# Altium schematic symbol library Блок вычислительный.SchLib: 35 symbols
Pins are listed as number, name and electrical type; pins without a type are passive.

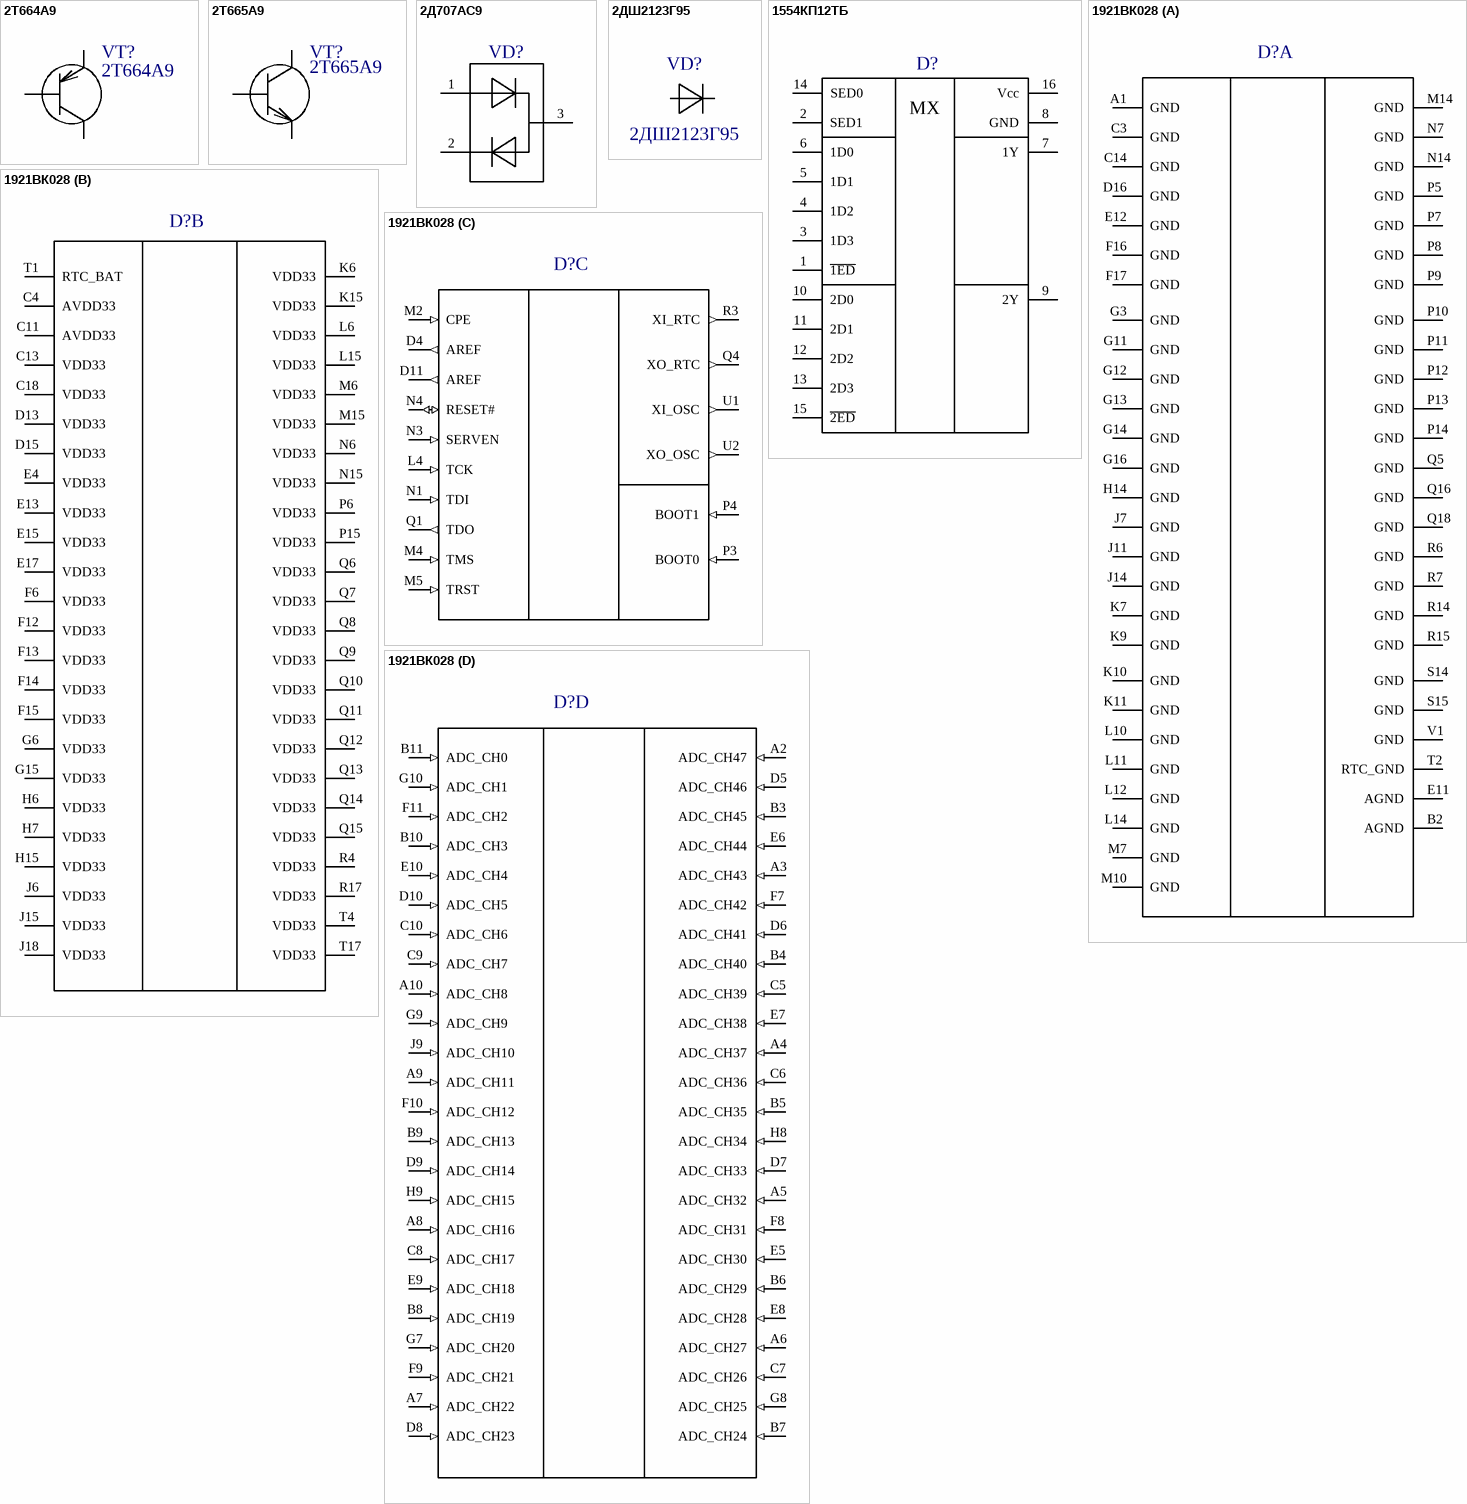
[diagram p0: symbols 2T664A9 to 1921ВК028]

## 2T664A9
designator VT?
pnp кремниевый транзистор; PackegeType: КТ-47; TU: аА0.339.559ТУ; TUHolder: ЗАО "Группа Кремний Эл"; TypePrefix: Транзистор; PartNumber: 2T664A9
footprint KT-99-1
pins: 1, 2, 3

## 2T665A9
designator VT?
npn кремниевый транзистор; PackegeType: КТ-47; TU: аА0.339.559ТУ; TUHolder: ЗАО "Группа Кремний Эл"; TypePrefix: Транзистор; PartNumber: 2T665A9
footprint KT-99-1
pins: 1, 2, 3

## 2Д707АС9
designator VD?  (value not drawn)
2Д707АС9 диод импульсный; TU: аА0.339.583ТУ; TUHolder: ООО "НПК ДАЛЕКС"; TypePrefix: VD; Value: *; PartNumber: 2Д707АС9
footprint KT-46
pins: 1, 2, 3

## 2ДШ2123Г95
designator VD?
Диод Шоттки; TU: АЕЯР.432120.567ТУ; PackegeType: КТ-99-1; TUHolder: ОА ВЗПП-С; TypePrefix: VD; Value: *; PartNumber: 2ДШ2123Г95
footprint KT-99-1
pins: 2, 3

## 1554КП12ТБ
designator D?  (value not drawn)
Два селектор-мультиплексора 4-1; TU: АЕЯР.431200.182-15ТУ; TUHolder: "Интеграл"; TypePrefix: D; PackegeType: 402.16-32; PartNumber: 1554КП12ТБ
footprint 1554КП12ТБ (Footprint not found)
pins: 1 ~{1ED}, 2 SED1, 3 1D3, 4 1D2, 5 1D1, 6 1D0, 7 1Y, 8 GND, 9 2Y, 10 2D0, 11 2D1, 12 2D2, 13 2D3, 14 SED0, 15 ~{2ED}, 16 Vcc
text: MX

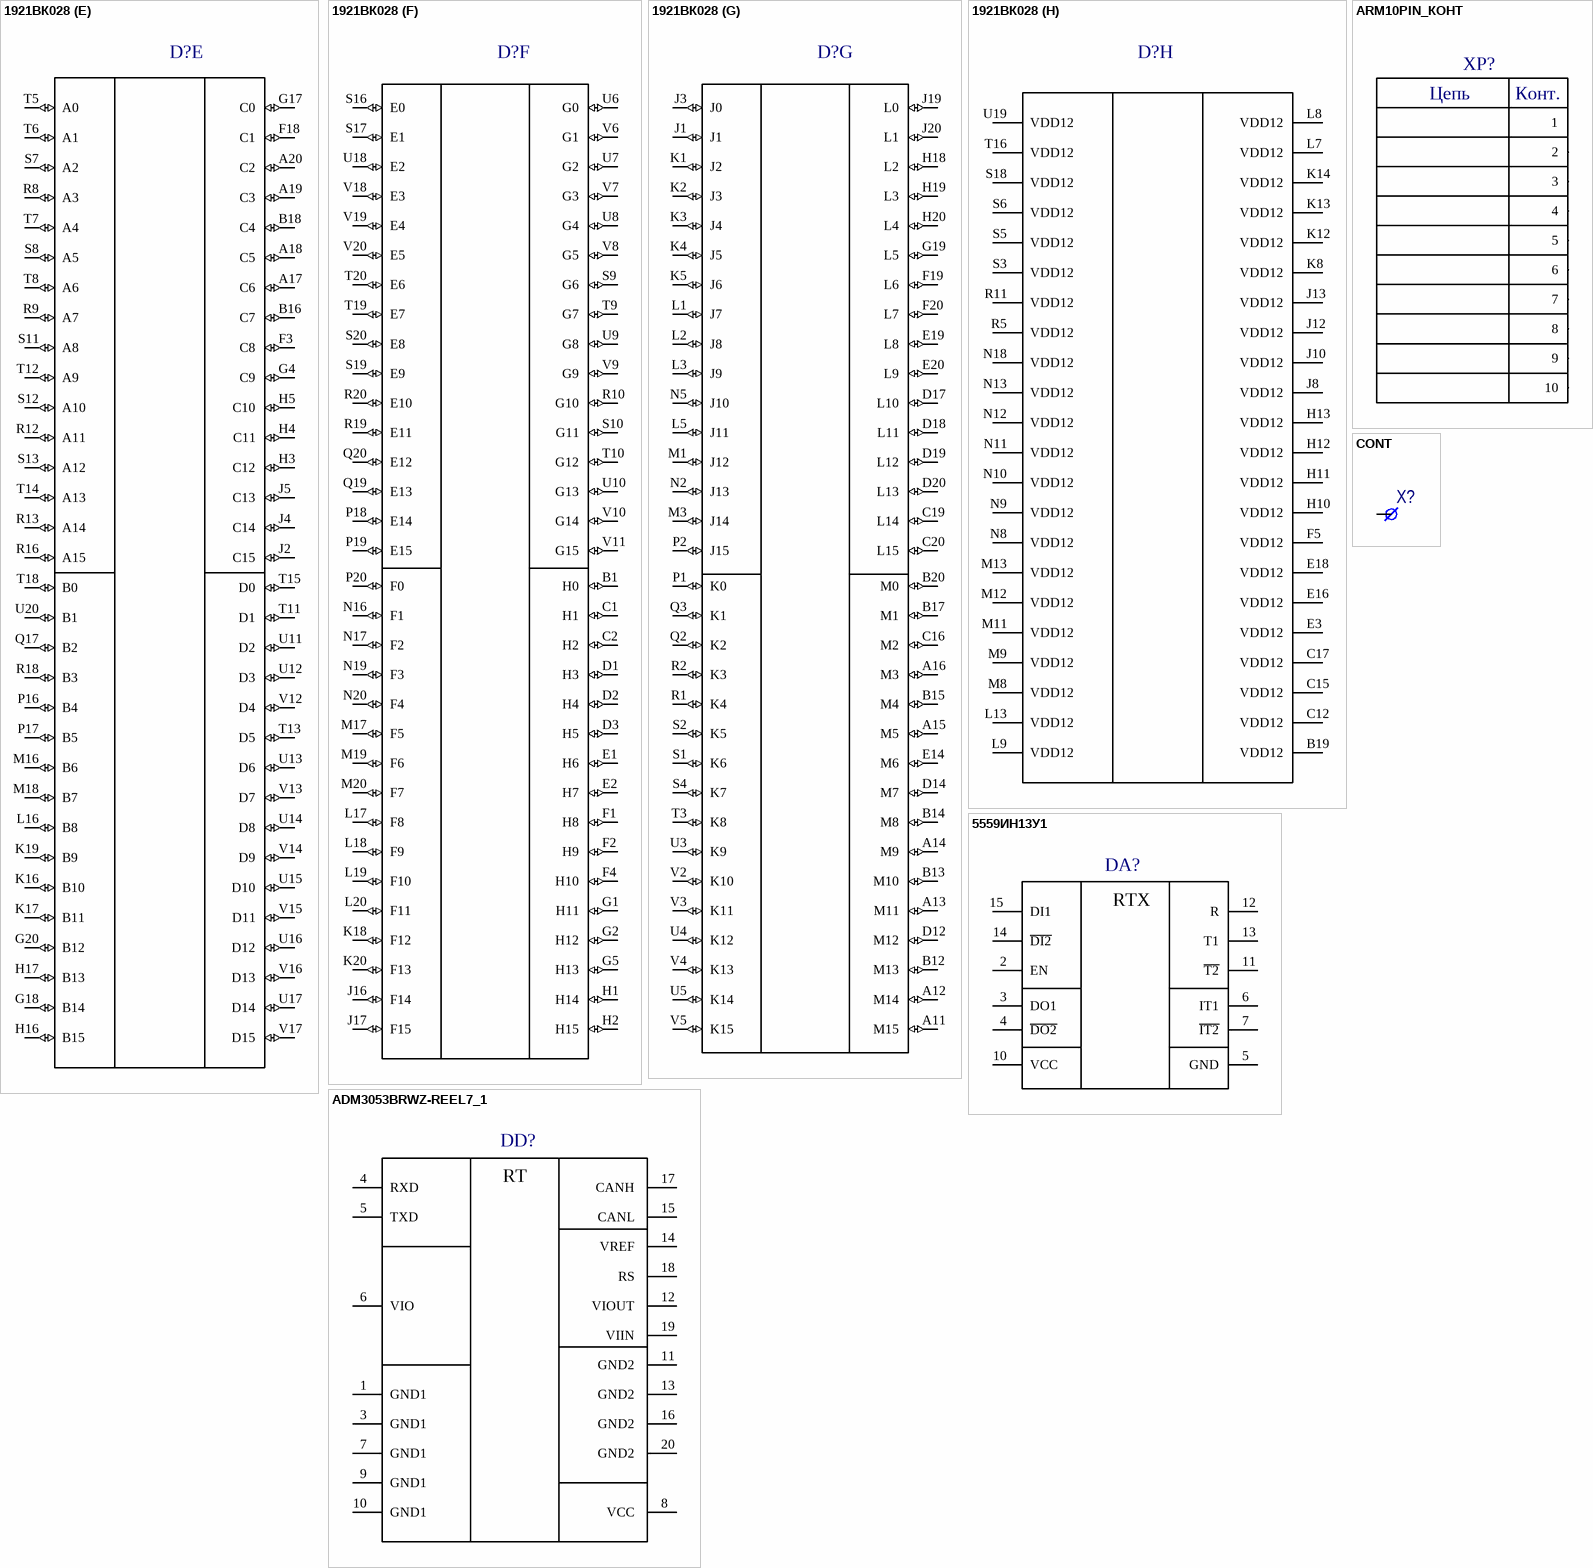
[diagram p1: symbols 1921ВК028 to CONT]

## 1921ВК028
designator D?  (value not drawn)
МК 1921ВК028; TypePrefix: Микроконтроллер; TU: АЕНВ.431290.444ТУ; TUHolder: АО «НИИЭТ», Россия, г.Воронеж; Prefix: D; TypeName: Микросхемы интегральные; Value: *; PartNumber: 1921ВК028
footprint BGA-400_21.0X21.0MM_LAYOUT20X20_P1.0MM
part A pins: A1 GND (power) "Земля", B2 AGND (power) "Аналоговая земля", C3 GND (power) "Земля", C14 GND (power) "Земля", D16 GND (power) "Земля", E11 AGND (power) "Аналоговая земля", E12 GND (power) "Земля", F16 GND (power) "Земля", F17 GND (power) "Земля", G3 GND (power) "Земля", G11 GND (power) "Земля", G12 GND (power) "Земля", G13 GND (power) "Земля", G14 GND (power) "Земля", G16 GND (power) "Земля", H14 GND (power) "Земля", J7 GND (power) "Земля", J11 GND (power) "Земля", J14 GND (power) "Земля", K7 GND (power) "Земля", K9 GND (power) "Земля", K10 GND (power) "Земля", K11 GND (power) "Земля", L10 GND (power) "Земля", L11 GND (power) "Земля", L12 GND (power) "Земля", L14 GND (power) "Земля", M7 GND (power) "Земля", M10 GND (power) "Земля", M14 GND (power) "Земля", N7 GND (power) "Земля", N14 GND (power) "Земля", P5 GND (power) "Земля", P7 GND (power) "Земля", P8 GND (power) "Земля", P9 GND (power) "Земля", P10 GND (power) "Земля", P11 GND (power) "Земля", P12 GND (power) "Земля", P13 GND (power) "Земля", P14 GND (power) "Земля", Q5 GND (power) "Земля", Q16 GND (power) "Земля", Q18 GND (power) "Земля", R6 GND (power) "Земля", R7 GND (power) "Земля", R14 GND (power) "Земля", R15 GND (power) "Земля", S14 GND (power) "Земля", S15 GND (power) "Земля", T2 RTC_GND (power) "Земля RTC", V1 GND (power) "Земля"
part B pins: C4 AVDD33 (power) "Аналоговое питание 3,3 В", C11 AVDD33 (power) "Аналоговое питание 3,3 В", C13 VDD33 (power) "Питание буферов ввода-вывода 3,3В", C18 VDD33 (power) "Питание буферов ввода-вывода 3,3В", D13 VDD33 (power) "Питание буферов ввода-вывода 3,3В", D15 VDD33 (power) "Питание буферов ввода-вывода 3,3В", E4 VDD33 (power) "Питание буферов ввода-вывода 3,3В", E13 VDD33 (power) "Питание буферов ввода-вывода 3,3В", E15 VDD33 (power) "Питание буферов ввода-вывода 3,3В", E17 VDD33 (power) "Питание буферов ввода-вывода 3,3В", F6 VDD33 (power) "Питание буферов ввода-вывода 3,3В", F12 VDD33 (power) "Питание буферов ввода-вывода 3,3В", F13 VDD33 (power) "Питание буферов ввода-вывода 3,3В", F14 VDD33 (power) "Питание буферов ввода-вывода 3,3В", F15 VDD33 (power) "Питание буферов ввода-вывода 3,3В", G6 VDD33 (power) "Питание буферов ввода-вывода 3,3В", G15 VDD33 (power) "Питание буферов ввода-вывода 3,3В", H6 VDD33 (power) "Питание буферов ввода-вывода 3,3В", H7 VDD33 (power) "Питание буферов ввода-вывода 3,3В", H15 VDD33 (power) "Питание буферов ввода-вывода 3,3В", J6 VDD33 (power) "Питание буферов ввода-вывода 3,3В", J15 VDD33 (power) "Питание буферов ввода-вывода 3,3В", J18 VDD33 (power) "Питание буферов ввода-вывода 3,3В", K6 VDD33 (power) "Питание буферов ввода-вывода 3,3В", K15 VDD33 (power) "Питание буферов ввода-вывода 3,3В", L6 VDD33 (power) "Питание буферов ввода-вывода 3,3В", L15 VDD33 (power) "Питание буферов ввода-вывода 3,3В", M6 VDD33 (power) "Питание буферов ввода-вывода 3,3В", M15 VDD33 (power) "Питание буферов ввода-вывода 3,3В", N6 VDD33 (power) "Питание буферов ввода-вывода 3,3В", N15 VDD33 (power) "Питание буферов ввода-вывода 3,3В", P6 VDD33 (power) "Питание буферов ввода-вывода 3,3В", P15 VDD33 (power) "Питание буферов ввода-вывода 3,3В", Q6 VDD33 (power) "Питание буферов ввода-вывода 3,3В", Q7 VDD33 (power) "Питание буферов ввода-вывода 3,3В", Q8 VDD33 (power) "Питание буферов ввода-вывода 3,3В", Q9 VDD33 (power) "Питание буферов ввода-вывода 3,3В", Q10 VDD33 (power) "Питание буферов ввода-вывода 3,3В", Q11 VDD33 (power) "Питание буферов ввода-вывода 3,3В", Q12 VDD33 (power) "Питание буферов ввода-вывода 3,3В", Q13 VDD33 (power) "Питание буферов ввода-вывода 3,3В", Q14 VDD33 (power) "Питание буферов ввода-вывода 3,3В", Q15 VDD33 (power) "Питание буферов ввода-вывода 3,3В", R4 VDD33 (power) "Питание буферов ввода-вывода 3,3В", R17 VDD33 (power) "Питание буферов ввода-вывода 3,3В", T1 RTC_BAT (power) "Батарейное питание RTC", T4 VDD33 (power) "Питание буферов ввода-вывода 3,3В", T17 VDD33 (power) "Питание буферов ввода-вывода 3,3В"
part C pins: D4 AREF (out), D11 AREF (out), L4 TCK (in), M2 CPE (in), M4 TMS (in), M5 TRST (in), N1 TDI (in), N3 SERVEN (in), N4 RESET# (io), P3 BOOT0 (in), P4 BOOT1 (in), Q1 TDO (out), Q4 XO_RTC (out), R3 XI_RTC (out), U1 XI_OSC (out), U2 XO_OSC (out)
part D pins: A2 ADC_CH47 (in) "Вход АЦП3, канал 47", A3 ADC_CH43 (in) "Вход АЦП3, канал 43", A4 ADC_CH37 (in) "Вход АЦП3, канал 37", A5 ADC_CH32 (in) "Вход АЦП2, канал 32", A6 ADC_CH27 (in) "Вход АЦП2, канал 27", A7 ADC_CH22 (in) "Вход АЦП1, канал 22", A8 ADC_CH16 (in) "Вход АЦП1, канал 16", A9 ADC_CH11 (in) "Вход АЦП0, канал 11", A10 ADC_CH8 (in) "Вход АЦП0, канал 8", B3 ADC_CH45 (in) "Вход АЦП3, канал 45", B4 ADC_CH40 (in) "Вход АЦП3, канал 40", B5 ADC_CH35 (in) "Вход АЦП2, канал 35", B6 ADC_CH29 (in) "Вход АЦП2, канал 29", B7 ADC_CH24 (in) "Вход АЦП2, канал 24", B8 ADC_CH19 (in) "Вход АЦП1, канал 19", B9 ADC_CH13 (in) "Вход АЦП1, канал 13", B10 ADC_CH3 (in) "Вход АЦП0, канал 3", B11 ADC_CH0 (in) "Вход АЦП0, канал 0", C5 ADC_CH39 (in) "Вход АЦП3, канал 39", C6 ADC_CH36 (in) "Вход АЦП3, канал 36", C7 ADC_CH26 (in) "Вход АЦП2, канал 26", C8 ADC_CH17 (in) "Вход АЦП1, канал 17", C9 ADC_CH7 (in) "Вход АЦП0, канал 7", C10 ADC_CH6 (in) "Вход АЦП0, канал 6", D5 ADC_CH46 (in) "Вход АЦП3, канал 46", D6 ADC_CH41 (in) "Вход АЦП3, канал 41", D7 ADC_CH33 (in) "Вход АЦП2, канал 33", D8 ADC_CH23 (in) "Вход АЦП1, канал 23", D9 ADC_CH14 (in) "Вход АЦП1, канал 14", D10 ADC_CH5 (in) "Вход АЦП0, канал 5", E5 ADC_CH30 (in) "Вход АЦП2, канал 30", E6 ADC_CH44 (in) "Вход АЦП3, канал 44", E7 ADC_CH38 (in) "Вход АЦП3, канал 38", E8 ADC_CH28 (in) "Вход АЦП2, канал 28", E9 ADC_CH18 (in) "Вход АЦП1, канал 18", E10 ADC_CH4 (in) "Вход АЦП0, канал 4", F7 ADC_CH42 (in) "Вход АЦП3, канал 42", F8 ADC_CH31 (in) "Вход АЦП2, канал 31", F9 ADC_CH21 (in) "Вход АЦП1, канал 21", F10 ADC_CH12 (in) "Вход АЦП1, канал 12", F11 ADC_CH2 (in) "Вход АЦП0, канал 2", G7 ADC_CH20 (in) "Вход АЦП1, канал 20", G8 ADC_CH25 (in) "Вход АЦП2, канал 25", G9 ADC_CH9 (in) "Вход АЦП0, канал 9", G10 ADC_CH1 (in) "Вход АЦП0, канал 1", H8 ADC_CH34 (in) "Вход АЦП2, канал 34", H9 ADC_CH15 (in) "Вход АЦП1, канал 15", J9 ADC_CH10 (in) "Вход АЦП0, канал 10"
part E pins: A17 C6 (io), A18 C5 (io), A19 C3 (io), A20 C2 (io), B16 C7 (io), B18 C4 (io), F3 C8 (io), F18 C1 (io), G4 C9 (io), G17 C0 (io), G18 B14 (io), G20 B12 (io), H3 C12 (io), H4 C11 (io), H5 C10 (io), H16 B15 (io), H17 B13 (io), J2 C15 (io), J4 C14 (io), J5 C13 (io), K16 B10 (io), K17 B11 (io), K19 B9 (io), L16 B8 (io), M16 B6 (io), M18 B7 (io), P16 B4 (io), P17 B5 (io), Q17 B2 (io), R8 A3 (io), R9 A7 (io), R12 A11 (io), R13 A14 (io), R16 A15 (io), R18 B3 (io), S7 A2 (io), S8 A5 (io), S11 A8 (io), S12 A10 (io), S13 A12 (io), T5 A0 (io), T6 A1 (io), T7 A4 (io), T8 A6 (io), T11 D1 (io), T12 A9 (io), T13 D5 (io), T14 A13 (io), T15 D0 (io), T18 B0 (io), U11 D2 (io), U12 D3 (io), U13 D6 (io), U14 D8 (io), U15 D10 (io), U16 D12 (io), U17 D14 (io), U20 B1 (io), V12 D4 (io), V13 D7 (io), V14 D9 (io), V15 D11 (io), V16 D13 (io), V17 D15 (io)
part F pins: B1 H0 (io), C1 H1 (io), C2 H2 (io), D1 H3 (io), D2 H4 (io), D3 H5 (io), E1 H6 (io), E2 H7 (io), F1 H8 (io), F2 H9 (io), F4 H10 (io), G1 H11 (io), G2 H12 (io), G5 H13 (io), H1 H14 (io), H2 H15 (io), J16 F14 (io), J17 F15 (io), K18 F12 (io), K20 F13 (io), L17 F8 (io), L18 F9 (io), L19 F10 (io), L20 F11 (io), M17 F5 (io), M19 F6 (io), M20 F7 (io), N16 F1 (io), N17 F2 (io), N19 F3 (io), N20 F4 (io), P18 E14 (io), P19 E15 (io), P20 F0 (io), Q19 E13 (io), Q20 E12 (io), R10 G10 (io), R19 E11 (io), R20 E10 (io), S9 G6 (io), S10 G11 (io), S16 E0 (io), S17 E1 (io), S19 E9 (io), S20 E8 (io), T9 G7 (io), T10 G12 (io), T19 E7 (io), T20 E6 (io), U6 G0 (io), U7 G2 (io), U8 G4 (io), U9 G8 (io), U10 G13 (io), U18 E2 (io), V6 G1 (io), V7 G3 (io), V8 G5 (io), V9 G9 (io), V10 G14 (io), V11 G15 (io), V18 E3 (io), V19 E4 (io), V20 E5 (io)
part G pins: A11 M15 (io), A12 M14 (io), A13 M11 (io), A14 M9 (io), A15 M5 (io), A16 M3 (io), B12 M13 (io), B13 M10 (io), B14 M8 (io), B15 M4 (io), B17 M1 (io), B20 M0 (io), C16 M2 (io), C19 L14 (io), C20 L15 (io), D12 M12 (io), D14 M7 (io), D17 L10 (io), D18 L11 (io), D19 L12 (io), D20 L13 (io), E14 M6 (io), E19 L8 (io), E20 L9 (io), F19 L6 (io), F20 L7 (io), G19 L5 (io), H18 L2 (io), H19 L3 (io), H20 L4 (io), J1 (io), J3 J0 (io), J19 L0 (io), J20 L1 (io), K1 J2 (io), K2 J3 (io), K3 J4 (io), K4 J5 (io), K5 J6 (io), L1 J7 (io), L2 J8 (io), L3 J9 (io), L5 J11 (io), M1 J12 (io), M3 J14 (io), N2 J13 (io), N5 J10 (io), P1 K0 (io), P2 J15 (io), Q2 K2 (io), Q3 K1 (io), R1 K4 (io), R2 K3 (io), S1 K6 (io), S2 K5 (io), S4 K7 (io), T3 K8 (io), U3 K9 (io), U4 K12 (io), U5 K14 (io), V2 K10 (io), V3 K11 (io), V4 K13 (io), V5 K15 (io)
part H pins: B19 VDD12 (power) "Питание ядра 1.2В", C12 VDD12 (power) "Питание ядра 1.2В", C15 VDD12 (power) "Питание ядра 1.2В", C17 VDD12 (power) "Питание ядра 1.2В", E3 VDD12 (power) "Питание ядра 1.2В", E16 VDD12 (power) "Питание ядра 1.2В", E18 VDD12 (power) "Питание ядра 1.2В", F5 VDD12 (power) "Питание ядра 1.2В", H10 VDD12 (power) "Питание ядра 1.2В", H11 VDD12 (power) "Питание ядра 1.2В", H12 VDD12 (power) "Питание ядра 1.2В", H13 VDD12 (power) "Питание ядра 1.2В", J8 VDD12 (power) "Питание ядра 1.2В", J10 VDD12 (power) "Питание ядра 1.2В", J12 VDD12 (power) "Питание ядра 1.2В", J13 VDD12 (power) "Питание ядра 1.2В", K8 VDD12 (power) "Питание ядра 1.2В", K12 VDD12 (power) "Питание ядра 1.2В", K13 VDD12 (power) "Питание ядра 1.2В", K14 VDD12 (power) "Питание ядра 1.2В", L7 VDD12 (power) "Питание ядра 1.2В", L8 VDD12 (power) "Питание ядра 1.2В", L9 VDD12 (power) "Питание ядра 1.2В", L13 VDD12 (power) "Питание ядра 1.2В", M8 VDD12 (power) "Питание ядра 1.2В", M9 VDD12 (power) "Питание ядра 1.2В", M11 VDD12 (power) "Питание ядра 1.2В", M12 VDD12 (power) "Питание ядра 1.2В", M13 VDD12 (power) "Питание ядра 1.2В", N8 VDD12 (power) "Питание ядра 1.2В", N9 VDD12 (power) "Питание ядра 1.2В", N10 VDD12 (power) "Питание ядра 1.2В", N11 VDD12 (power) "Питание ядра 1.2В", N12 VDD12 (power) "Питание ядра 1.2В", N13 VDD12 (power) "Питание ядра 1.2В", N18 VDD12 (power) "Питание ядра 1.2В", R5 VDD12 (power) "Питание ядра 1.2В", R11 VDD12 (power) "Питание ядра 1.2В", S3 VDD12 (power) "Питание ядра 1.2В", S5 VDD12 (power) "Питание ядра 1.2В", S6 VDD12 (power) "Питание ядра 1.2В", S18 VDD12 (power) "Питание ядра 1.2В", T16 VDD12 (power) "Питание ядра 1.2В", U19 VDD12 (power) "Питание ядра 1.2В"

## 5559ИН13У1
designator DA?  (value not drawn)
МКИО приемопередатчик 5559ИН13Т; TypePrefix: Приемопердатчик МКИО; TU: АЕЯР.431230.591ТУ; TUHolder: ОАО НПО "Физика",Россия, г. Москва; Prefix: DA; TipeName: Приемопередатчики; Value: *; PartNumber: 5559ИН13У1
footprint N09.28-1B (Footprint not found)
pins: 2 EN, 3 DO1, 4 ~{DO2}, 5 GND, 6 IT1, 7 ~{IT2}, 10 VCC, 11 ~{T2}, 12 R, 13 T1, 14 ~{DI2}, 15  DI1
text: RTX

## ADM3053BRWZ-REEL7_1
designator DD?  (value not drawn)
Микросборка CAN с гальванической развязкой; TypePrefix: Приемопередатчик; TUHolder: Analog Devices, США; Prefix: DD; TypeName: Приемопередатчики; Value: *; PartNumber: ADM3053BRWZ-REEL7_1; TU: *
footprint SOIC-20 (SOIC, 20-Leads, Body 12,80x7,50mm, Pitch 1,27mm, IPC Low Density)
pins: 1 GND1, 3 GND1, 4 RXD, 5 TXD, 6 VIO, 7 GND1, 8 VCC , 9 GND1, 10 GND1, 11 GND2 , 12 VIOUT , 13 GND2 , 14 VREF , 15 CANL , 16 GND2 , 17 CANH , 18 RS , 19 VIIN , 20 GND2 
text: RT

## ARM10PIN_КОНТ
designator XP?  (value not drawn)
Value: Вилка СНП346-10ВП21-2В; TU: РЮМК.430420.011ТУ
footprint PLD-10
pins: 1, 2, 3, 4, 5, 6, 7, 8, 9, 10
text: Цепь; Конт.

## CONT
designator X?  (value not drawn)
CONT1_SMD; PartNumber: контактное поле; Value: *
footprint ПЛАН_ПЛОЩ (Footprint not found)
pins: 1

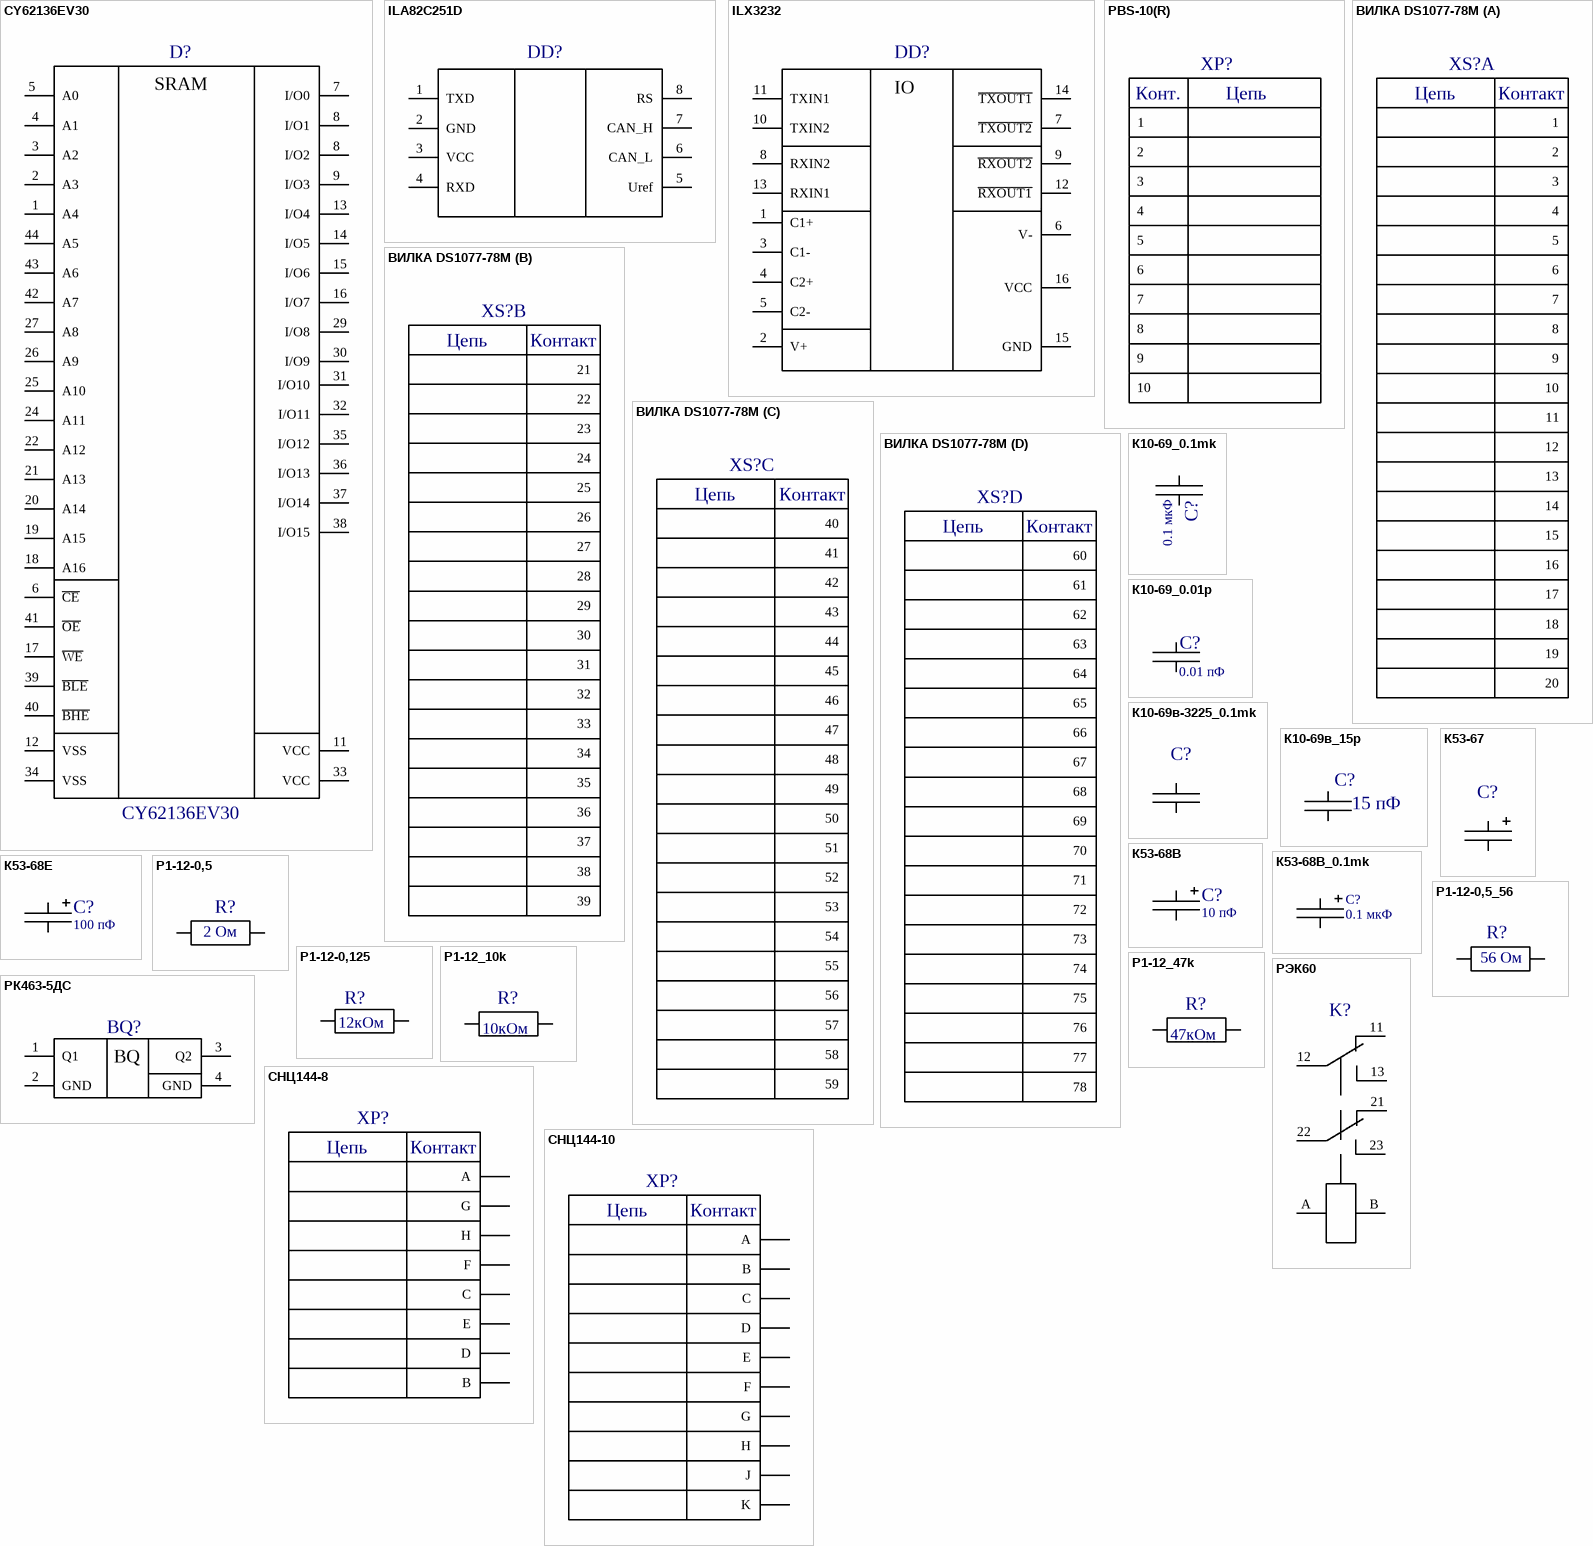
[diagram p2: symbols CY62136EV30 to СНЦ144-10]

## CY62136EV30
designator D?
СОЗУ CY62136EV30 256КБ; TypePrefix: Статическая память; TUHolder: "Cypress Semiconductor",США; Prefix: D; Value: 256 КБ; PartNumber: CY62136EV30; TU: *
footprint TSOP-44
pins: 1 A4, 2 A3, 3 A2, 4 A1, 5  A0, 6 ~{CE}, 7 I/O0, 8 I/O2, 8 I/O1, 9 I/O3, 11 VCC, 12 VSS, 13 I/O4, 14 I/O5, 15 I/O6, 16 I/O7, 17 ~{WE}, 18 A16, 19 A15, 20 A14, 21 A13, 22 A12, 24 A11, 25 A10, 26 A9, 27 A8, 29 I/O8, 30 I/O9, 31 I/O10, 32 I/O11, 33 VCC, 34 VSS, 35 I/O12, 36 I/O13, 37 I/O14, 38 I/O15, 39 ~{BLE}, 40 ~{BHE}, 41 ~{OE}, 42 A7, 43 A6, 44 A5
text: SRAM

## ILA82C251D
designator DD?  (value not drawn)
CAN Приемопередатчик  ILA82C251D; TypePrefix: Приемопередатик CAN; TUHolder: ОАО "ИНТЕГРАЛ", Республика Беларусь, г.Минск; Prefix: DD; TipeName: Приемопередатчики; Value: *; PartNumber: ILA82C251D; TU: *
footprint SOIC-8
pins: 1 TXD, 2 GND, 3 VCC, 4 RXD, 5 Uref, 6 CAN_L, 7 CAN_H, 8 RS

## ILX3232
designator DD?  (value not drawn)
RS-232 Приемопередатчик ILX3232; TypePrefix: Приемопередатчик RS-232; TUHolder: ОАО "ИНТЕГРАЛ", Республика Беларусь, г.Минск; Prefix: DD; TypeName: Приемопередатчики; Value: *; PartNumber: ILX3232; TU: *
footprint SOIC-16
pins: 1 С1+, 2 V+, 3 С1-, 4 C2+, 5 C2-, 6 V-, 7 ~{TXOUT2}, 8 RXIN2, 9 ~{RXOUT2}, 10 TXIN2, 11 TXIN1, 12 ~{RXOUT1}, 13 RXIN1, 14 ~{TXOUT1}, 15 GND, 16 VCC
text: IO

## PBS-10(R)
designator XP?  (value not drawn)
Value: B10B-PUDSS-1, JST (JAPAN SOLDERLESS TERMINALS)
footprint PBS-10R (Footprint not found)
pins: 1, 2, 3, 4, 5, 6, 7, 8, 9, 10
text: Конт.; Цепь

## ВИЛКА DS1077-78M
designator XS?  (value not drawn)
Value: DS1077-78FB8(0)TSS, Connfly Electronic
footprint DS-1077-78F (Footprint not found)
part A pins: 1, 2, 3, 4, 5, 6, 7, 8, 9, 10, 11, 12, 13, 14, 15, 16, 17, 18, 19, 20
part B pins: 21, 22, 23, 24, 25, 26, 27, 28, 29, 30, 31, 32, 33, 34, 35, 36, 37, 38, 39
part C pins: 40, 41, 42, 43, 44, 45, 46, 47, 48, 49, 50, 51, 52, 53, 54, 55, 56, 57, 58, 59
part D pins: 60, 61, 62, 63, 64, 65, 66, 67, 68, 69, 70, 71, 72, 73, 74, 75, 76, 77, 78
part A text: Цепь; Контакт
part B text: Цепь; Контакт
part C text: Цепь; Контакт
part D text: Цепь; Контакт

## К10-69_0.1mk
designator C?, comment 0.1 мкФ
Керамический чип-конденсатор серии К10-69; PartNumber: К10-69в-*-* В- * ± *% *; TypePrefix: C; TU: АЖЯР.673511.002ТУ; TUHolder: ОАО НИИ "ГИРИКОНД"; Value: *; PackegeType: *
footprint C0805
pins: 1, 2

## К10-69_0.01p
designator C?, comment 0.01 пФ
Керамический чип-конденсатор серии К10-79; PartNumber: К10-69в-*-* В- * ± *% *; TypePrefix: C; TU: АЖЯР.673511.002ТУ; TUHolder: ОАО НИИ "ГИРИКОНД"; Value: *; PackegeType: *
footprint C0805
pins: 1, 2

## К10-69в-3225_0.1mk
designator C?, comment 0.1 мкФ  (value not drawn)
Конденсатор неполярный
footprint C1210
pins: 1, 2

## К10-69в_15p
designator C?, comment 15 пФ
Конденсатор неполярный
footprint C0805
pins: 1, 2

## К53-67
designator C?, comment 22 мкФ  (value not drawn)
Оксидно-полупроводниковый танталовый чип-конденсатор серии К53-68; PartNumber: К53-67 "*"-* В-* мкФ ±*%; TypePrefix: C; TU: АЖЯР.673546.006 ТУ; TUHolder: ОАО НИИ "ГИРИКОНД"; Value: *; PackegeType: *
footprint К53-67
pins: 1, 2

## К53-68B
designator C?, comment 10 пФ
Конденсатор / полярный
footprint К53-67
pins: 1, 2

## К53-68B_0.1mk
designator C?, comment 0.1 мкФ
Конденсатор / полярный; PartNumber: К53-68 "C" - 25В - 4.7мкФ ±10%; Value: 4.7мкФ; TU: АЖЯР.673546.007; TUHolder: ОАО "Элеконд", Россия, г.Сарапул; Prefix: C; TypePrefix: Конденсатор; TypeName: *
footprint К53-67
pins: 1, 2

## К53-68E
designator C?, comment 100 пФ
Конденсатор полярный
footprint К53-68E
pins: 1, 2

## Р1-12-0,5
designator R?, comment 2 Ом
Резистор постоянный
footprint P1-12-0.5(1210)
pins: 1, 2

## Р1-12-0,5_56
designator R?, comment 56 Ом
Резистор постоянный
footprint P1-12-0.5(1210)
pins: 1, 2

## Р1-12-0,125
designator R?, comment 12кОм
Резистор постоянный
footprint P1-12-0.125(0805)
pins: 1, 2

## Р1-12_10k
designator R?, comment 10кОм
Постоянные непроволочные безвыводные резисторы общего применения Р1-12; PartNumber: Р1-12-*-*±*%-*; TU: АЛЯР.434110.005 ТУ; TUHolder: ЗАО "РЕОМ"; TypePrefix: R; PackegeType: *; Value: *
footprint P1-12-0.125(0805)
pins: 1, 2

## Р1-12_47k
designator R?, comment 47кОм
Постоянные непроволочные безвыводные резисторы общего применения Р1-12; PartNumber: Р1-12-*-*±*%-*; TU: АЛЯР.434110.005 ТУ; TUHolder: ЗАО "РЕОМ"; TypePrefix: R; PackegeType: *; Value: *
footprint P1-12-0.125(0805)
pins: 1, 2

## РК463-5ДС
designator BQ?, comment Резонатор РК463-5ДС-16,0М  (value not drawn)
Кварцевый резонатор; TU: ТУ6321-011-07604008-07; TUHolder: "Пьезотрон"; TypePrefix: BQ; PartNumber: Резонатор РК463-5ДС-16,0М
footprint RK463_BQ_RK-463(Primary) (Footprint not found)
pins: 1 Q1, 2 GND, 3 Q2, 4 GND

## РЭК60
designator K?  (value not drawn)
Value: Реле РЭК61В РВИМ.647611.008-18; TU: РВИМ.647611.008ТУ
footprint РЭК60
pins: 11, 12, 13, 21, 22, 23, A, B

## СНЦ144-8
designator XP?  (value not drawn)
ВИЛКА СНЦ144-8 СОСТАВНАЯ; PartNumber: СНЦ144-8/13ВП21-NWПС; Value: Вилка СНЦ144-8/13ВП21-NWПС; TU: ЦСНК.430421.008ТУ; TUHolder: ОАО 'Уральский завод электрических соединителей 'ИСЕТЬ', Россия, г. Каменск-Уральский; TypePrefix: Изделия соеденительные; PackegeType: *
footprint XP_СНЦ144-8_13-Вилка
pins: A, B, C, D, E, F, G, H
text: Цепь; Контакт

## СНЦ144-10
designator XP?  (value not drawn)
ВИЛКА СНЦ144-10 СОСТАВНАЯ; PartNumber: СНЦ144-10/13ВП21-NWПС; Value: Вилка СНЦ144-10/13ВП21-NWПС; TU: ЦСНК.430421.008ТУ; TUHolder: ОАО 'Уральский завод электрических соединителей 'ИСЕТЬ', Россия, г. Каменск-Уральский; TypePrefix: Изделия соеденительные; PackegeType: *
footprint XP_СНЦ144-10_13-вилка
pins: A, B, C, D, E, F, G, H, J, K
text: Цепь; Контакт

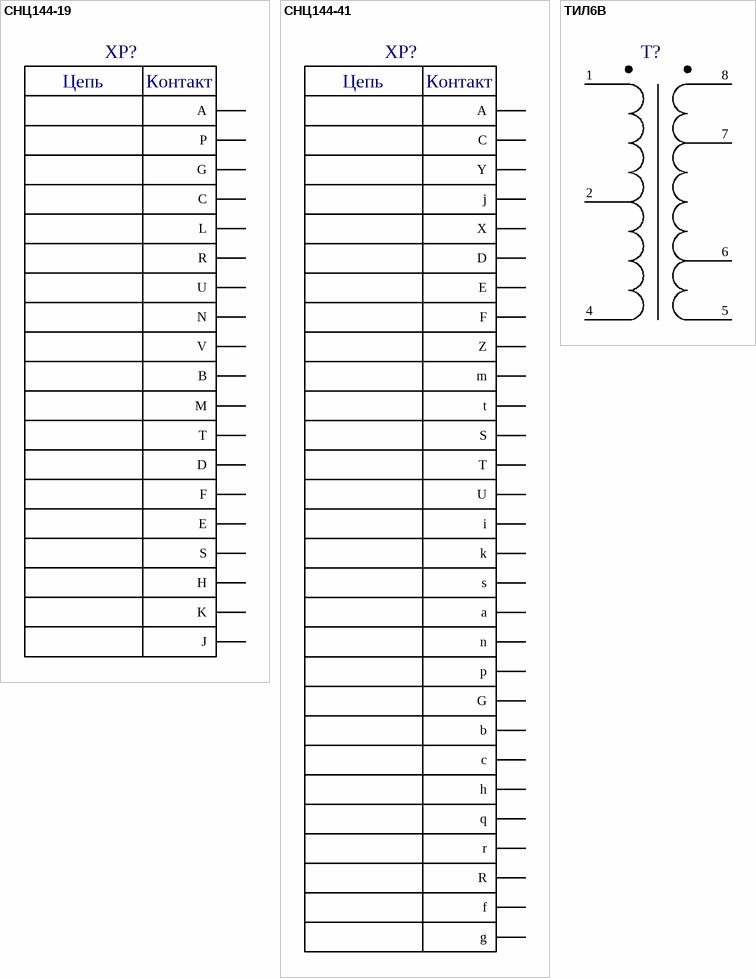
[diagram p3: symbols СНЦ144-19 to ТИЛ6В]

## СНЦ144-19
designator XP?  (value not drawn)
ВИЛКА СНЦ144-19 СОСТАВНАЯ; PartNumber: СНЦ144-19/15ВП21-NWПС; Value: Вилка СНЦ144-19/15ВП21-NWПС; TypePrefix: Изделия соеденительные; TU: ЦСНК.430421.008ТУ; TUHolder: ОАО 'Уральский завод электрических соединителей 'ИСЕТЬ', Россия, г. Каменск-Уральский; PackegeType: *
footprint XP_СНЦ144-19/15-вилка
pins: A, B, C, D, E, F, G, H, J, K, L, M, N, P, R, S, T, U, V
text: Цепь; Контакт

## СНЦ144-41
designator XP?  (value not drawn)
ВИЛКА СНЦ144-41 СОСТАВНАЯ; PartNumber: СНЦ144-41/21ВП21-NWПС; Value: Вилка СНЦ144-41/21ВП21-NWПС; TU: ЦСНК.430421.008ТУ; TUHolder: ОАО 'Уральский завод электрических соединителей 'ИСЕТЬ', Россия, г. Каменск-Уральский; TypePrefix: Изделия соеденительные; PackegeType: *
footprint XP_СНЦ144-41_21-вилка
pins: A, aa a, bb b, C, cc c, D, E, F, ff f, G, gg g, hh h, ii i, jj j, kk k, mm m, nn n, pp p, qq q, R, rr r, S, ss s, T, tt t, U, X, Y, Z
text: Цепь; Контакт

## ТИЛ6В
designator Т?
Трансформатор для ГОСТ Р 52070-2003
footprint ТИЛ6В
pins: 1, 2, 4, 5, 6, 7, 8